# Altium schematic symbol library HDR4.SchLib: 1 symbol
Pins are listed as number, name and electrical type; pins without a type are passive.

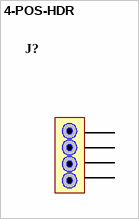
[diagram p0: symbol 4-POS-HDR]

## 4-POS-HDR
designator J?, comment 4-POS VERTICAL HEADER  (value not drawn)
footprint HDR1X4 (Footprint not found)
signal-integrity model Connector
pins: 1, 2, 3, 4